# EAGLE library part CONN_05X2 (library LinnesLab-Connectors)
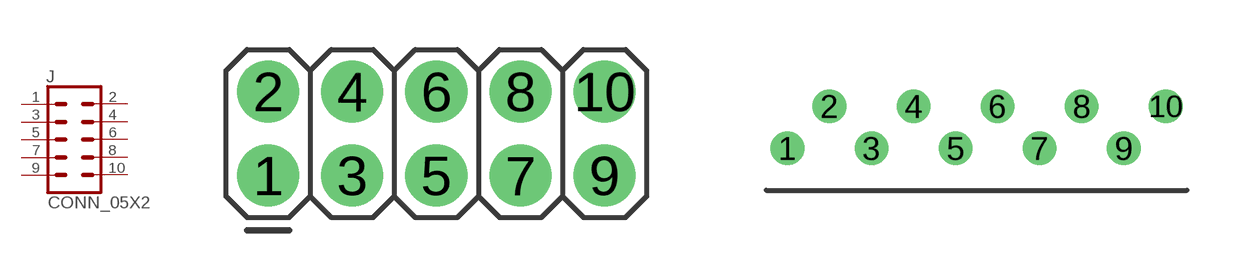
[diagram p23: symbol with the pads of 2X05; footprints 2X05, 2X05_50MIL_R_OFFSET]

Designator prefix J

## CONN_05X2  [2X05]
1  1  pas
2  2  pas
3  3  pas
4  4  pas
5  5  pas
6  6  pas
7  7  pas
8  8  pas
9  9  pas
10  10  pas

## CONN_05X2-R_OFFSET  [2X05_50MIL_R_OFFSET]
Pads as for 2X05

## Footprint 2X05 (pad centres in mm)
Plated Through Hole - 2x5 Specifications: Pin count:10 Pin pitch:0.1" Example device(s): CONN_05x2
drill 1.016 pad 1.88: 1 0,0; 2 0,2.54; 3 2.54,0; 4 2.54,2.54; 5 5.08,0; 6 5.08,2.54; 7 7.62,0; 8 7.62,2.54; 9 10.16,0; 10 10.16,2.54

## Footprint 2X05_50MIL_R_OFFSET (pad centres in mm)
drill 0.508 pad 0.94: 1 0,0; 2 1.27,1.27; 3 2.54,0; 4 3.81,1.27; 5 5.08,0; 6 6.35,1.27; 7 7.62,0; 8 8.89,1.27; 9 10.16,0; 10 11.43,1.27